# Altium footprint library mikro.PcbLib: 5 footprints
Each footprint in its own frame and in the unit in brackets; x right, y up, seen from the top. Pads: shape width x height; smd on the part's side, far side on the other; paste and mask are expansions set on the pad; w line width, h text height; cw(c..) or ccw(c..) is an arc to the next point about the centre after c.
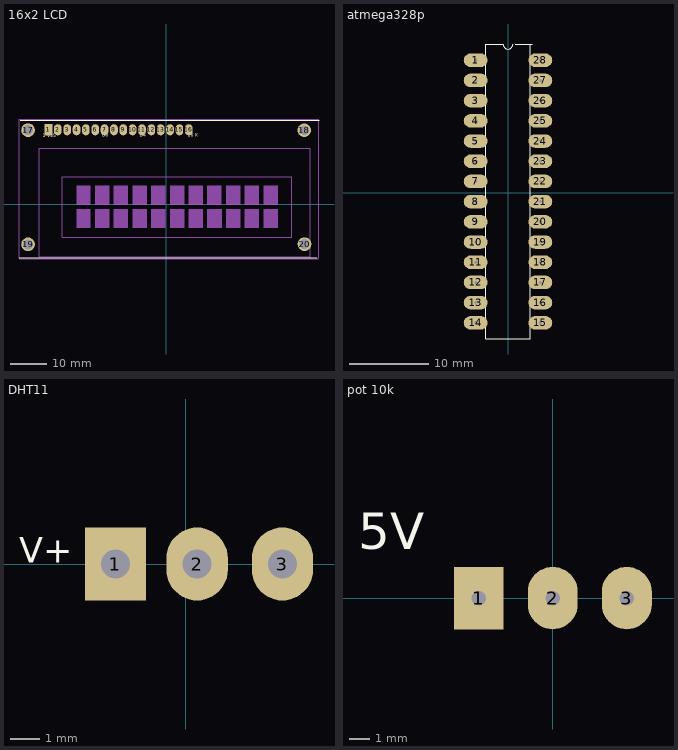
[diagram p0: the footprints below, top view; thin cyan lines are the x and y axes]

## 16x2 LCD [mm]
pads (20):
  rect 2.1x3 hole 0.5 mask+0.05: 1(-31.979,20.168)
  oval 2.1x3 hole 0.5 mask+0.05: 2(-29.439,20.168) 3(-26.899,20.168) 4(-24.359,20.168) 5(-21.819,20.168) 6(-19.279,20.168) 7(-16.739,20.168) 8(-14.199,20.168) 9(-11.659,20.168) 10(-9.119,20.168) 11(-6.579,20.168) 12(-4.039,20.168) 13(-1.499,20.168) 14(1.041,20.168) 15(3.581,20.168) 16(6.121,20.168)
  round 3.716 hole 2.7: 17(-37.516,20.066) 18(37.49,20.041) 19(-37.516,-10.947) 20(37.567,-10.897)
Top Overlay:
  lines w0.127: -39.98,-14.58 40.945,-14.561 ; -39.599,22.708 41.504,22.733
  text "1 VSS" at -33.528,17.67 h1.5
  text "16 K" at 5.867,17.873 h1.5
  text "D0" at -17.348,17.898 h1.5
  text "D4" at -7.163,17.805 h1.5
Mechanical 13:
  region: 26.441,4.912 30.282,4.912 30.282,-0.152 26.441,-0.152
  region: 26.441,-1.436 30.27,-1.436 30.27,-6.502 26.441,-6.502
  region: 21.361,-1.445 25.196,-1.445 25.196,-6.502 21.361,-6.502
  region: 21.361,4.918 25.187,4.918 25.187,-0.152 21.361,-0.152
  region: 16.281,4.919 20.102,4.919 20.102,-0.152 16.281,-0.152
  region: 16.281,-1.425 20.094,-1.425 20.094,-6.502 16.281,-6.502
  region: 11.201,-1.459 15.035,-1.459 15.035,-6.502 11.201,-6.502
  region: 11.201,4.923 15.015,4.923 15.015,-0.152 11.201,-0.152
  region: 6.121,-1.458 9.946,-1.458 9.946,-6.502 6.121,-6.502
  region: 6.121,4.921 9.935,4.921 9.935,-0.152 6.121,-0.152
  region: 1.041,4.901 4.858,4.901 4.858,-0.152 1.041,-0.152
  region: 1.041,-1.46 4.858,-1.46 4.858,-6.502 1.041,-6.502
  region: -4.039,4.923 -0.229,4.923 -0.229,-0.152 -4.039,-0.152
  region: -4.039,-1.45 -0.23,-1.45 -0.23,-6.502 -4.039,-6.502
  region: -9.119,4.906 -5.317,4.906 -5.317,-0.152 -9.119,-0.152
  region: -9.119,-1.453 -5.317,-1.453 -5.317,-6.502 -9.119,-6.502
  region: -14.199,-1.43 -10.392,-1.43 -10.392,-6.502 -14.199,-6.502
  region: -14.199,4.905 -10.406,4.905 -10.406,-0.152 -14.199,-0.152
  region: -19.279,-1.443 -15.485,-1.443 -15.485,-6.502 -19.279,-6.502
  region: -19.279,4.904 -15.495,4.904 -15.495,-0.152 -19.279,-0.152
  region: -24.359,-1.441 -20.567,-1.441 -20.567,-6.502 -24.359,-6.502
  region: -24.359,4.913 -20.569,4.913 -20.569,-0.152 -24.359,-0.152
  lines w0.127: -34.519,-14.376 39.141,-14.376 39.141,15.088 -34.519,15.088 -34.519,-14.376 ; -28.169,-9.042 34.061,-9.042 34.061,7.468 -28.169,7.468 -28.169,-9.042
Mechanical 15:
  lines w0.127: -39.959,-14.783 -39.959,22.968 41.478,22.968 41.478,-14.554 41.224,-14.808 ; -39.954,-14.801 41.265,-14.801
3D body "User Library-LCD 16x2 JHD162A.STEP": height 10.6, standoff -2.55, extent -39.98,-13.453 40.02,22.547

## atmega328p [mm]
pads (28):
  oval 3x1.7 hole 0.4: 1(-4.064,16.637) 2(-4.064,14.097) 3(-4.064,11.557) 4(-4.064,9.017) 5(-4.064,6.477) 6(-4.064,3.937) 7(-4.064,1.397) 8(-4.064,-1.143) 9(-4.064,-3.683) 10(-4.064,-6.223) 11(-4.064,-8.763) 12(-4.064,-11.303) 13(-4.064,-13.843) 14(-4.064,-16.383) 15(4.064,-16.383) 16(4.064,-13.843) 17(4.064,-11.303) 18(4.064,-8.763) 19(4.064,-6.223) 20(4.064,-3.683) 21(4.064,-1.143) 22(4.064,1.397) 23(4.064,3.937) 24(4.064,6.477) 25(4.064,9.017) 26(4.064,11.557) 27(4.064,14.097) 28(4.064,16.637)
Top Overlay:
  lines w0.127: 0.635,18.669 cw(c0,18.669) -0.635,18.669 -2.794,18.669 -2.794,-18.415 2.794,-18.415 2.794,18.669 ; 0.889,18.669 3.048,18.669
3D body "ATMEGA328-PU--3DModel-STEP-56544.STEP": height 4.57, standoff -3.43, extent -5.08,-17.145 5.08,17.526

## Buton [mil]

## DHT11 [mm]
pads (3):
  rect 2.1x2.5 hole 1: 1(-2.413,0)
  oval 2.1x2.5 hole 1: 2(0.381,0) 3(3.302,0)
Top Overlay:
  text "V+" at -5.714,-0.254 h1.5
3D body "User Library-DHT11 Temp-Humidity Sensor.STEP": height 4.33, standoff -32.75, extent -6.869,-6.801 7.631,1.719

## pot 10k [mm]
pads (3):
  rect 2.4x3 hole 0.7: 1(-3.556,0)
  oval 2.4x3 hole 0.7: 2(0,0) 3(3.556,0)
Top Overlay:
  text "5V" at -9.356,1.778 h3